# Altium schematic symbol library IND,68nH,200mA,Multilayer,0402.Schlib: 1 symbol
Pins are listed as number, name and electrical type; pins without a type are passive.

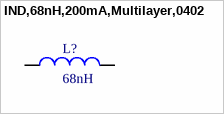
[diagram p0: symbol IND,68nH,200mA,Multilayer,0402]

## IND,68nH,200mA,Multilayer,0402
designator L?, comment 68nH
FIXED IND 68NH 200MA 1.25 OHM
pins: 1, 2